# Altium footprint library PCB_28_pin_plib.PcbLib: 17 footprints (part 1 of 2)
Each footprint in its own frame and in the unit in brackets; x right, y up, seen from the top. Pads: shape width x height; smd on the part's side, far side on the other; paste and mask are expansions set on the pad; w line width, h text height; cw(c..) or ccw(c..) is an arc to the next point about the centre after c.
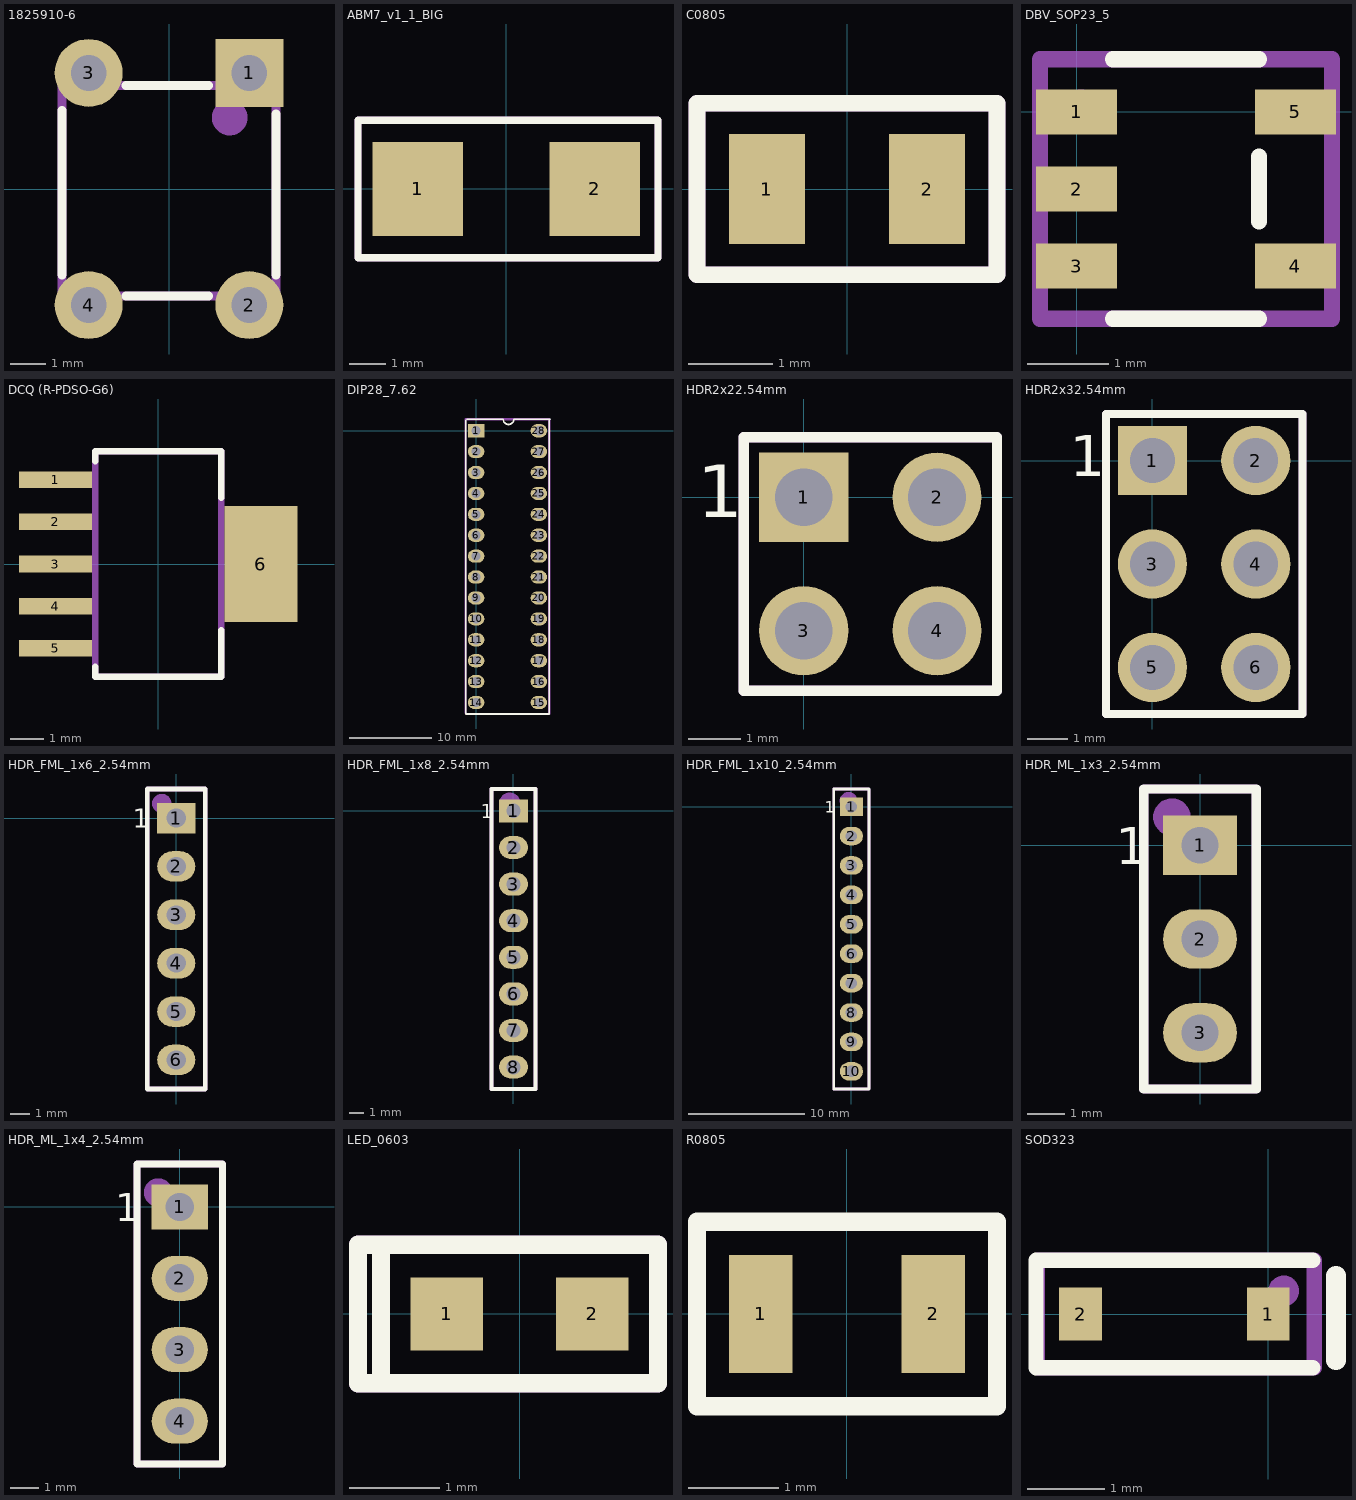
[diagram p0: the footprints below, top view; thin cyan lines are the x and y axes]

## 1825910-6 [mm]
pads (4):
  rect 1.9x1.9 hole 1: 1(2.25,3.25)
  round 1.9 hole 1: 2(2.25,-3.25) 3(-2.25,3.25) 4(-2.25,-3.25)
Top Overlay:
  lines w0.254: -3,-2.4 -3,2.2 ; -1.2,-3 1.1,-3 ; -1.2,2.9 1.1,2.9 ; 3,-2.4 3,2.1
Mechanical 29:
  circle w0.5: c1.7,2 r0.25
  lines w0.254: -3,-3 3,-3 3,2.9 -3,2.9 -3,-3
3D body "User Library-FSM4JH(1825910-6).STEP": height 5, standoff -3.51, extent -2.995,-3.899 2.995,3.9

## ABM7_v1_1_BIG [mm]
pads (2):
  rect 2.5x2.6 smd: 1(-2.45,0) 2(2.45,0)
Top Overlay:
  lines w0.2: -4.1,-1.9 -4.1,1.9 4.2,1.9 4.2,-1.9 -4.1,-1.9
Mechanical 29:
  lines w0.2: -4.1,-1.9 4.2,-1.9 4.2,1.9 -4.1,1.9 -4.1,-1.9
  text "'.Designator'" at -4.4,-0.9 h1.5
3D body "ABM7.STEP": height 1.41, standoff 0.01, extent -2.997,-1.753 2.997,1.752

## C0805 [mm]
pads (2):
  rect 0.9x1.3 smd: 1(-0.95,0) 2(0.95,0)
Top Overlay:
  lines w0.2: -1.778,-1.016 1.778,-1.016 1.778,1.016 -1.778,1.016 -1.778,-1.016
Mechanical 29:
  lines w0.2: -1.778,-1.016 1.778,-1.016 1.778,1.016 -1.778,1.016 -1.778,-1.016
  text "'.Designator'" at -1.27,-0.254 h0.6
3D body "CAPC2012X145N EIA 0805.step": height 1.46, standoff 0.01, extent -1.016,-0.6 0.984,0.6

## DBV_SOP23_5 [mm]
pads (5):
  rect 1x0.55 smd: 1(0,0) 2(0,-0.95) 3(0,-1.9) 4(2.7,-1.9) 5(2.7,0)
Top Overlay:
  lines w0.2: 0.45,-2.55 2.25,-2.55 ; 0.45,0.65 2.25,0.65 ; 2.25,-1.35 2.25,-0.55
Mechanical 29:
  circle w0.254: c0.05,0.05 r0.1
  lines w0.2: -0.45,-2.55 3.15,-2.55 3.15,0.65 -0.45,0.65 -0.45,-2.55
  text ".Designator" at -0.15,-1.15 h0.55
3D body "User Library-TPS560200DBV.STEP": height 1.43, standoff -0.02, extent -0.164,-2.45 2.865,0.55

## DCQ (R-PDSO-G6) [mm]
pads (6):
  rect 2.2x0.5 smd: 1(-3.1,2.54) 2(-3.1,1.27) 3(-3.1,0) 4(-3.1,-1.27) 5(-3.1,-2.54)
  rect 2.2x3.5 smd: 6(3.1,0)
Top Overlay:
  lines w0.2: -1.9,-3.1 -1.9,-3.4 1.9,-3.4 1.9,-2 ; -1.9,3.1 -1.9,3.4 1.9,3.4 1.9,2
Mechanical 29:
  lines w0.2: -1.9,-3.4 -1.9,3.4 1.9,3.4 1.9,-3.4 -1.9,-3.4
  text "'.Designator'" at -0.9,-0.6 h1.5
3D body "User Library-TPS73701DCQ.STEP": height 1.79, standoff -0.01, extent -3.73,-3.3 3.53,3.25

## DIP28_7.62 [mm]
pads (28):
  rect 2x1.6 hole 1.1: 1(0,0)
  oval 2x1.6 hole 1.1: 2(0,-2.54) 3(0,-5.08) 4(0,-7.62) 5(0,-10.16) 6(0,-12.7) 7(0,-15.24) 8(0,-17.78) 9(0,-20.32) 10(0,-22.86) 11(0,-25.4) 12(0,-27.94) 13(0,-30.48) 14(0,-33.02) 15(7.62,-33.02) 16(7.62,-30.48) 17(7.62,-27.94) 18(7.62,-25.4) 19(7.62,-22.86) 20(7.62,-20.32) 21(7.62,-17.78) 22(7.62,-15.24) 23(7.62,-12.7) 24(7.62,-10.16) 25(7.62,-7.62) 26(7.62,-5.08) 27(7.62,-2.54) 28(7.62,0)
Top Overlay:
  lines w0.2: -1.27,1.27 -1.27,-34.417 8.89,-34.417 8.89,1.27 ; -1.143,1.397 3.302,1.397 ccw(c3.937,1.397) 4.572,1.397 9.017,1.397
Mechanical 29:
  circle w0.5: c0,0 r0.25
  lines w0.254: -1.27,-34.29 -1.27,1.397 8.89,1.397 8.89,-34.417 -1.143,-34.417 -1.27,-34.29
  text ".Designator" at 4.953,-22.479 h3
3D body "User Library-28 pin dip-1.STEP": height 1.65, standoff -4.57, extent -0.254,-34.481 7.62,1.461

## HDR2x22.54mm [mm]
pads (4):
  rect 1.7x1.7 hole 1.1: 1(0,0)
  round 1.7 hole 1.1: 2(2.54,0) 3(0,-2.54) 4(2.54,-2.54)
Top Overlay:
  lines w0.2: -1.143,-3.683 -1.143,1.143 3.683,1.143 3.683,-3.683 -1.143,-3.683
  text "1" at -2.032,-0.381 h1
Mechanical 29:
  circle w0.508: c-0.381,0.381 r0.127
  lines w0.2: -1.143,-3.683 3.683,-3.683 3.683,1.143 -1.143,1.143 -1.143,-3.683
  text "'.Designator'" at 1.778,-3.556 h1.52
3D body "67996-404HLF_AMP.step": height 8.9, standoff -5.07, extent -1.27,-3.81 3.81,1.27

## HDR2x32.54mm [mm]
pads (6):
  rect 1.7x1.7 hole 1.1: 1(0,0)
  round 1.7 hole 1.1: 2(2.54,0) 3(0,-2.54) 4(2.54,-2.54) 5(0,-5.08) 6(2.54,-5.08)
Top Overlay:
  lines w0.2: -1.143,-6.223 3.683,-6.223 3.683,1.143 -1.143,1.143 -1.143,-6.223
  text "1" at -2.032,-0.381 h1
Mechanical 29:
  circle w0.508: c-0.381,0.381 r0.127
  lines w0.2: -1.143,-6.223 -1.143,1.143 3.683,1.143 3.683,-6.223 -1.143,-6.223
  text "'.Designator'" at 1.778,-3.556 h1.52
3D body "7731341806lf.stp": height 8.18, standoff -3.32, extent -1.143,-6.15 3.687,1.07

## HDR_FML_1x6_2.54mm [mm]
pads (6):
  rect 2x1.6 hole 1: 1(0,0)
  oval 2x1.6 hole 1: 2(0,-2.54) 3(0,-5.08) 4(0,-7.62) 5(0,-10.16) 6(0,-12.7)
Top Overlay:
  lines w0.254: -1.524,-14.224 -1.524,1.524 1.524,1.524 1.524,-14.224 -1.524,-14.224
  text "1" at -2.286,-0.508 h1
Mechanical 29:
  circle w0.508: c-0.762,0.762 r0.254
  lines w0.254: -1.524,-14.224 1.524,-14.224 1.524,1.524 -1.524,1.524 -1.524,-14.224
  text "'.Designator'" at 1.016,-13.97 h1.52
3D body "m20-7820646_asm.stp": height 8.5, standoff -3, extent -1.25,-14.17 1.25,1.47

## HDR_FML_1x8_2.54mm [mm]
pads (8):
  rect 2x1.6 hole 1: 1(0,0)
  oval 2x1.6 hole 1: 2(0,-2.54) 3(0,-5.08) 4(0,-7.62) 5(0,-10.16) 6(0,-12.7) 7(0,-15.24) 8(0,-17.78)
Top Overlay:
  lines w0.254: -1.524,-19.304 1.524,-19.304 1.524,1.524 -1.524,1.524 -1.524,-19.304
  text "1" at -2.286,-0.508 h1
Mechanical 29:
  circle w0.762: c-0.254,0.508 r0.381
  lines w0.254: -1.524,-19.304 1.524,-19.304 1.524,1.524 -1.524,1.524 -1.524,-19.304
  text "'.Designator'" at 0.508,-17.018 h1.52
3D body "m20-7820842_asm.stp": height 8.51, standoff -2.99, extent -1.23,-19.25 1.27,1.47

## HDR_FML_1x10_2.54mm [mm]
pads (10):
  rect 2x1.6 hole 1: 1(0,0)
  oval 2x1.6 hole 1: 2(0,-2.54) 3(0,-5.08) 4(0,-7.62) 5(0,-10.16) 6(0,-12.7) 7(0,-15.24) 8(0,-17.78) 9(0,-20.32) 10(0,-22.86)
Top Overlay:
  lines w0.254: -1.524,-24.384 -1.524,1.524 1.524,1.524 1.524,-24.384 -1.524,-24.384
  text "1" at -2.286,-0.508 h1
Mechanical 29:
  circle w0.762: c-0.254,0.508 r0.381
  lines w0.254: -1.524,-24.384 -1.524,1.524 1.524,1.524 1.524,-24.384 -1.524,-24.384
  text "'.Designator'" at 0.762,-17.78 h1.52
3D body "m20-7821046_asm.stp": height 8.51, standoff -2.99, extent -1.25,-24.33 1.25,1.47

## HDR_ML_1x3_2.54mm [mm]
pads (3):
  rect 2x1.6 hole 1: 1(0,0)
  oval 2x1.6 hole 1: 2(0,-2.54) 3(0,-5.08)
Top Overlay:
  lines w0.254: -1.524,-6.604 1.524,-6.604 1.524,1.524 -1.524,1.524 -1.524,-6.604
  text "1" at -2.286,-0.508 h1
Mechanical 29:
  circle w0.508: c-0.762,0.762 r0.254
  lines w0.254: -1.524,-6.604 -1.524,1.524 1.524,1.524 1.524,-6.604 -1.524,-6.604
  text "'.Designator'" at 0.762,-5.842 h1.52
3D body "User Library-Header_Male_3Pin.STEP": height 8.54, standoff -3, extent -1.245,-6.35 1.245,1.27

## HDR_ML_1x4_2.54mm [mm]
pads (4):
  rect 2x1.6 hole 1: 1(0,0)
  oval 2x1.6 hole 1: 2(0,-2.54) 3(0,-5.08) 4(0,-7.62)
Top Overlay:
  lines w0.254: -1.524,-9.144 1.524,-9.144 1.524,1.524 -1.524,1.524 -1.524,-9.144
  text "1" at -2.286,-0.508 h1
Mechanical 29:
  circle w0.508: c-0.762,0.508 r0.254
  lines w0.254: -1.524,-9.144 -1.524,1.524 1.524,1.524 1.524,-9.144 -1.524,-9.144
  text "'.Designator'" at 1.016,-8.128 h1.52
3D body "HDR_1x4_White.stp": height 8.19, standoff -3.31, extent -1.205,-8.69 1.205,1.07

## LED_0603 [mm]
pads (2):
  rect 0.8x0.8 smd: 1(-0.8,0) 2(0.8,0)
Top Overlay:
  lines w0.2: -1.524,-0.762 -1.524,0.762 ; -1.778,-0.762 -1.778,0.762 1.524,0.762 1.524,-0.762 -1.778,-0.762
Mechanical 29:
  lines w0.2: -1.524,-0.762 -1.524,0.762 ; -1.778,-0.762 -1.778,0.762 1.524,0.762 1.524,-0.762 -1.778,-0.762
  text "'.Designator'" at -1.27,-0.254 h0.6
3D body "User Library-LED SMD0603.STEP": height 0.68, standoff 0, extent -0.934,-0.357 0.716,0.368

## R0805 [mm]
pads (2):
  rect 0.7x1.3 smd: 1(-0.95,0) 2(0.95,0)
Top Overlay:
  lines w0.2: -1.651,-1.016 -1.651,1.016 1.651,1.016 1.651,-1.016 -1.651,-1.016
3D body "CircuitWorks-RESISTOR 0805.STEP": height 0.47, standoff 0.01, extent -1,-0.63 1,0.63

## SOD323 [mil]
pads (2):
  rect 22x27 smd: 1(0,0) 2(-96,0)
Top Overlay:
  lines w7.87: 22.87,-27.56 -118.87,-27.56 -118.87,27.56 22.87,27.56
  lines w10: 34.68,-23.62 34.68,19.68
Mechanical 29:
  circle w7.87: c7.87,11.81 r3.94
  lines w7.87: -118.11,-27.56 -118.11,27.56 23.62,27.56 23.62,-27.56 -118.11,-27.56
3D body "User Library-SOD-323F.STEP": height 31.13, standoff -3.3, extent -101.14,-26.57 5.15,26.58